# EAGLE library part PIC24F16KA102 (library custom)
20/28-Pin General Purpose, 16-Bit Flash Microcontrollers with nanoWatt XLP? Technology
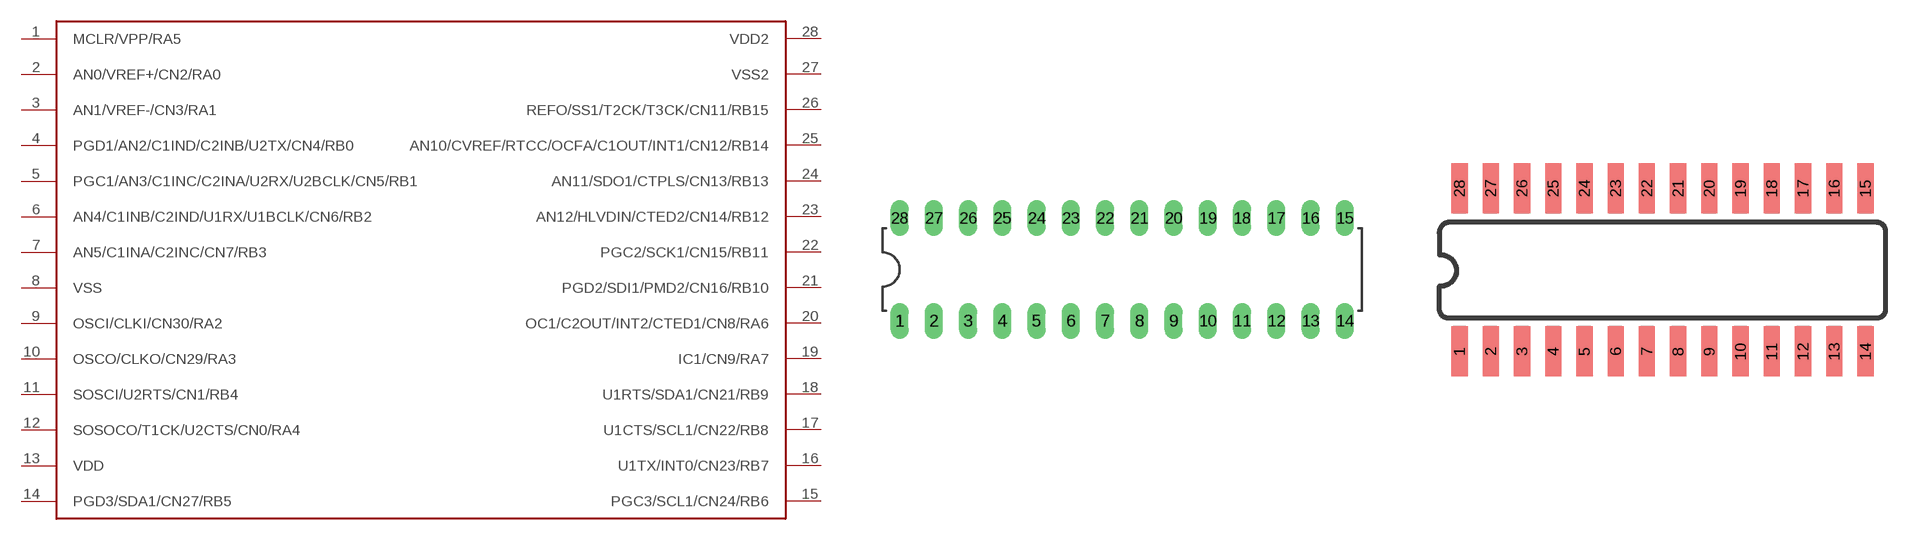
[diagram p0: symbol with the pads of DIL28; footprints DIL28, SOIC-28]

Designator prefix -

## PIC24F16KA10228DIP  [DIL28]
1  MCLR/VPP/RA5
2  AN0/VREF+/CN2/RA0
3  AN1/VREF-/CN3/RA1
4  PGD1/AN2/C1IND/C2INB/U2TX/CN4/RB0
5  PGC1/AN3/C1INC/C2INA/U2RX/U2BCLK/CN5/RB1
6  AN4/C1INB/C2IND/U1RX/U1BCLK/CN6/RB2
7  AN5/C1INA/C2INC/CN7/RB3
8  VSS
9  OSCI/CLKI/CN30/RA2
10  OSCO/CLKO/CN29/RA3
11  SOSCI/U2RTS/CN1/RB4
12  SOSOCO/T1CK/U2CTS/CN0/RA4
13  VDD
14  PGD3/SDA1/CN27/RB5
15  PGC3/SCL1/CN24/RB6
16  U1TX/INT0/CN23/RB7
17  U1CTS/SCL1/CN22/RB8
18  U1RTS/SDA1/CN21/RB9
19  IC1/CN9/RA7
20  OC1/C2OUT/INT2/CTED1/CN8/RA6
21  PGD2/SDI1/PMD2/CN16/RB10
22  PGC2/SCK1/CN15/RB11
23  AN12/HLVDIN/CTED2/CN14/RB12
24  AN11/SDO1/CTPLS/CN13/RB13
25  AN10/CVREF/RTCC/OCFA/C1OUT/INT1/CN12/RB14
26  REFO/SS1/T2CK/T3CK/CN11/RB15
27  VSS2
28  VDD2

## PIC24F16KA102SOIC-28  [SOIC-28]
Pads as for DIL28

## PIC24F16KA102SSOP28DB  [SSOP28DB]
Pads as for DIL28

## Footprint DIL28 (pad centres in mm)
Good old 28 pin DIP
drill 0.813 long: 1 -16.51,-3.81; 2 -13.97,-3.81; 3 -11.43,-3.81; 4 -8.89,-3.81; 5 -6.35,-3.81; 6 -3.81,-3.81; 7 -1.27,-3.81; 8 1.27,-3.81; 9 3.81,-3.81; 10 6.35,-3.81; 11 8.89,-3.81; 12 11.43,-3.81; 13 13.97,-3.81; 14 16.51,-3.81; 15 16.51,3.81; 16 13.97,3.81; 17 11.43,3.81; 18 8.89,3.81; 19 6.35,3.81; 20 3.81,3.81; 21 1.27,3.81; 22 -1.27,3.81; 23 -3.81,3.81; 24 -6.35,3.81; 25 -8.89,3.81; 26 -11.43,3.81; 27 -13.97,3.81; 28 -16.51,3.81

## Footprint SOIC-28 (pad centres in mm)
smd 0.66 x 2.032: 1 -0.065,1.795; 2 1.205,1.795; 3 2.475,1.795; 4 3.745,1.795; 5 5.015,1.795; 6 6.285,1.795; 7 7.555,1.795; 8 8.825,1.795; 9 10.095,1.795; 10 11.365,1.795; 11 12.635,1.795; 12 13.905,1.795; 13 15.175,1.795; 14 16.445,1.795; 15 16.445,8.425; 16 15.175,8.425; 17 13.905,8.425; 18 12.635,8.425; 19 11.365,8.425; 20 10.095,8.425; 21 8.825,8.425; 22 7.555,8.425; 23 6.285,8.425; 24 5.015,8.425; 25 3.745,8.425; 26 2.475,8.425; 27 1.205,8.425; 28 -0.065,8.425

## Footprint SSOP28DB (pad centres in mm)
Small Shrink Outline Package
smd 0.348 x 1.397: 1 -4.225,-3.656; 2 -3.575,-3.656; 3 -2.925,-3.656; 4 -2.275,-3.656; 5 -1.625,-3.656; 6 -0.975,-3.656; 7 -0.325,-3.656; 8 0.325,-3.656; 9 0.975,-3.656; 10 1.625,-3.656; 11 2.275,-3.656; 12 2.925,-3.656; 13 3.575,-3.656; 14 4.225,-3.656; 15 4.225,3.656; 16 3.575,3.656; 17 2.925,3.656; 18 2.275,3.656; 19 1.625,3.656; 20 0.975,3.656; 21 0.325,3.656; 22 -0.325,3.656; 23 -0.975,3.656; 24 -1.625,3.656; 25 -2.275,3.656; 26 -2.925,3.656; 27 -3.575,3.656; 28 -4.225,3.656